# Altium schematic symbol library DemoSchlib.SchLib: 58 symbols
Pins are listed as number, name and electrical type; pins without a type are passive.

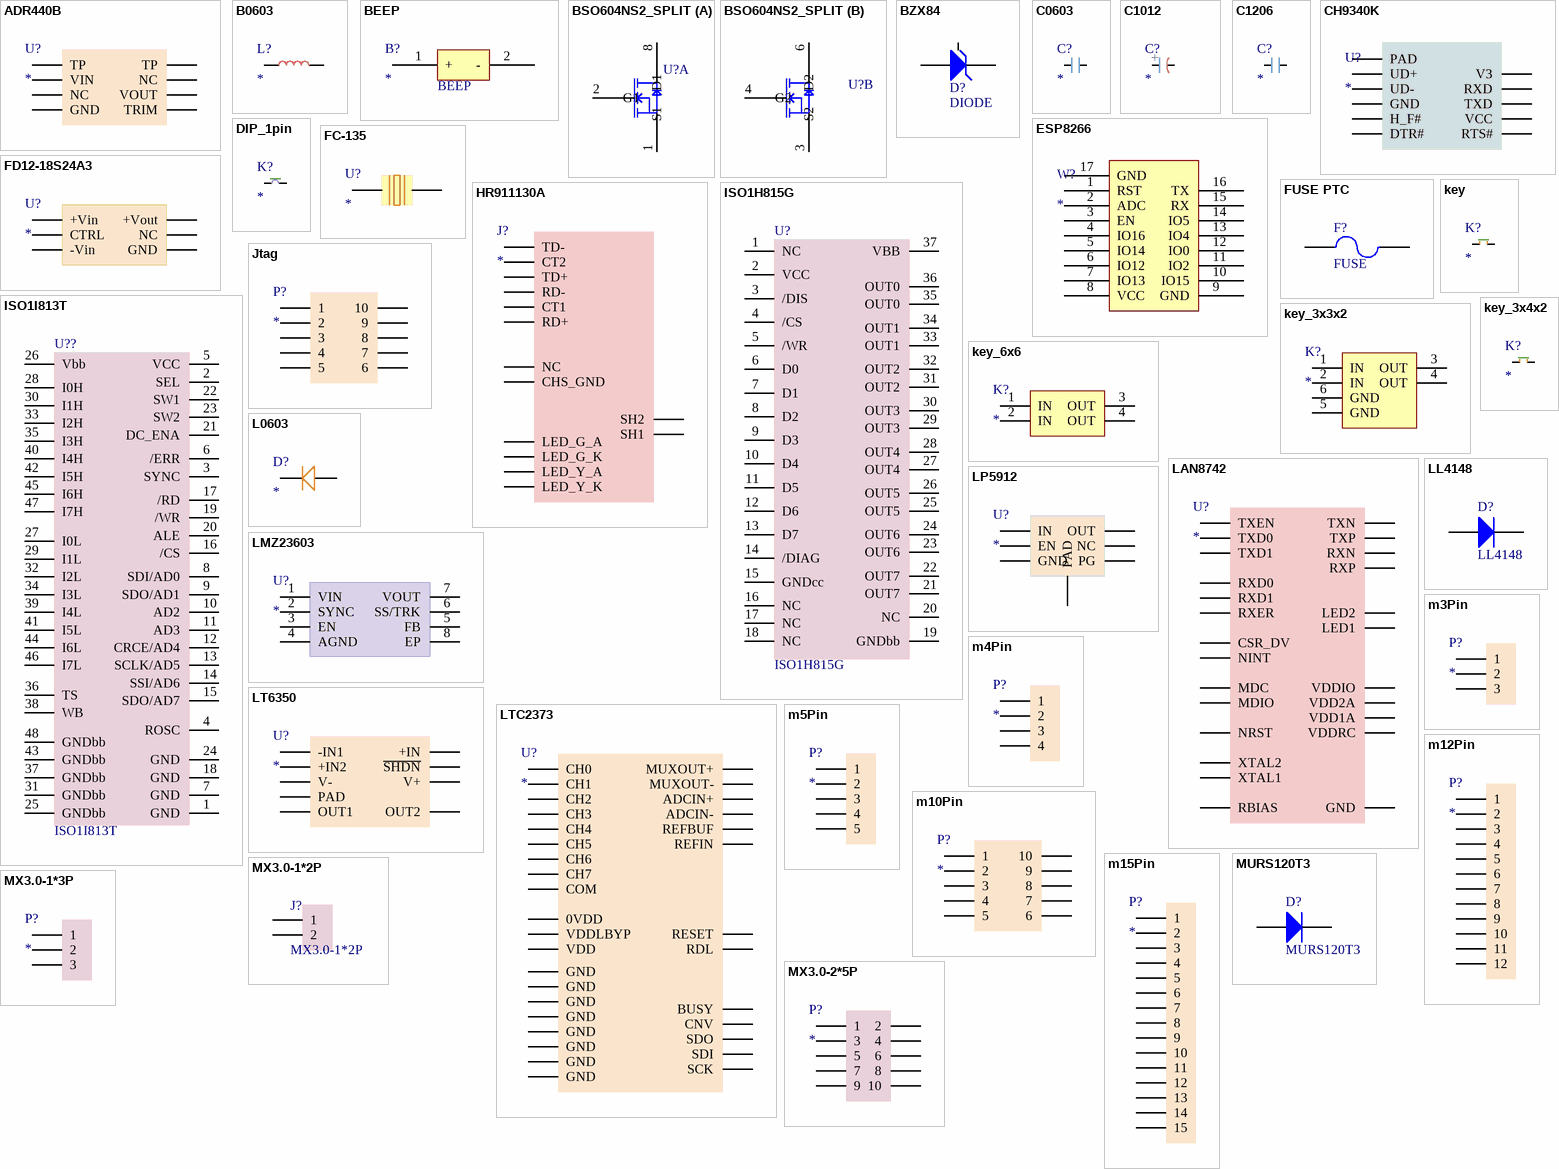
[diagram p0: symbols ADR440B to MX3.0-2*5P]

## ADR440B
designator U?
2.048基准电压
footprint ADR440 MSOP (MSOP, 8-Leads, Body 3.00x3.00mm, Pitch 0.65mm, IPC Medium Density)
pins: 1 TP, 2 VIN, 3 NC, 4 GND, 5 TRIM, 6 VOUT, 7 NC, 8 TP

## B0603
designator L?
磁珠
footprint B0603
pins: 1, 2

## BEEP
designator B?
12*6
footprint BEEP0905
pins: 1 +, 2 -

## BSO604NS2_SPLIT
designator U?  (value not drawn)
Double MOS
footprint BSO604NS2-SOP127P600X175-8N
part A pins: 1 S1, 2 G1, 8 D1
part B pins: 3 S2, 4 G2, 6 D2

## BZX84
designator D?, comment DIODE
infineon BZX84 series
footprint BZX84-SOT95P230X110-3N (SOT23, 3-Leads, Body 2.90x2.30mm, Pitch 0.95mm, IPC Medium Density)
pins: 1 A, 2 nc, 3 K

## C0603
designator C?
陶瓷电容
footprint C0603
pins: 1, 2

## C1012
designator C?
固态电容
footprint C1012
pins: 1, 2
text: +

## C1206
designator C?
陶瓷电容
pins: 1, 2

## CH9340K
designator U?
USB转串口
footprint CH9340
pins: 1 UD+, 2 UD-, 3 GND, 4 H_F#, 5 DTR#, 6 RTS#, 7 VCC, 8 TXD, 9 RXD, 10 V3, 11 PAD

## DIP_1pin
designator K?
拨码开关
footprint HRM-1Pin (贴片拨码开关1pin)
pins: 1, 2

## ESP8266
designator W?
footprint ESP-12S
pins: 1 RST, 2 ADC, 3 EN, 4 IO16, 5 IO14, 6 IO12, 7 IO13, 8 VCC, 9 GND, 10 IO15, 11 IO2, 12 IO0, 13 IO4, 14 IO5, 15 RX, 16 TX, 17 GND

## FC-135
designator U?
32.768K无源晶振
footprint FC-135
pins: 1, 2

## FD12-18S24A3
designator U?
DC DC 隔离电源
footprint FD12-18S24A3 (DC-DC)
pins: 1 -Vin, 2 +Vin, 3 +Vout, 4 NC, 5 GND, 6 CTRL

## FUSE PTC
designator F?, comment FUSE
PTC 1812
footprint 1812 (ptc)
pins: 1, 2

## HR911130A
designator J?
RJ45
footprint RJ45
pins: 1 TD+, 2 TD-, 3 RD+, 4 CT2, 5 CT1, 6 RD-, 7 NC, 8 CHS_GND, 9 LED_G_A, 10 LED_G_K, 11 LED_Y_K, 12 LED_Y_A, 13 SH1, 14 SH2

## ISO1H815G
designator U?
8 ch isolataed high side switch
footprint ISO1H815G (SOP, 36-Leads, Body 15.95x11.00mm, Pitch 0.65mm, Thermal Pad 16.00x5.90mm, IPC Medium Density)
pins: 1 NC, 2 VCC, 3 /DIS, 4 /CS, 5 /WR, 6 D0, 7 D1, 8 D2, 9 D3, 10 D4, 11 D5, 12 D6, 13 D7, 14 /DIAG, 15 GNDcc, 16 NC, 17 NC, 18 NC, 19 GNDbb, 20 NC, 21 OUT7, 22 OUT7, 23 OUT6, 24 OUT6, 25 OUT5, 26 OUT5, 27 OUT4, 28 OUT4, 29 OUT3, 30 OUT3, 31 OUT2, 32 OUT2, 33 OUT1, 34 OUT1, 35 OUT0, 36 OUT0, 37 VBB

## ISO1I813T
designator U??
8 ch digtal input
footprint ISO1I813T (TSSOP, 48-Leads, Body 12.50x6.10mm, Pitch 0.50mm, IPC Medium Density)
pins: 1 GND "8 ch digital input", 2 SEL, 3 SYNC, 4 ROSC, 5 VCC, 6 /ERR, 7 GND, 8 SDI/AD0, 9 SDO/AD1, 10 AD2, 11 AD3, 12 CRCE/AD4, 13 SCLK/AD5, 14 SSI/AD6, 15 SDO/AD7, 16 /CS, 17 /RD, 18 GND, 19 /WR, 20 ALE, 21 DC_ENA, 22 SW1, 23 SW2, 24 GND, 25 GNDbb, 26 Vbb, 27 I0L, 28 I0H, 29 I1L, 30 I1H, 31 GNDbb, 32 I2L, 33 I2H, 34 I3L, 35 I3H, 36 TS, 37 GNDbb, 38 WB, 39 I4L, 40 I4H, 41 I5L, 42 I5H, 43 GNDbb, 44 I6L, 45 I6H, 46 I7L, 47 I7H, 48 GNDbb

## Jtag
designator P?
5x2排针1.27mm
footprint 5x2 Jtag
pins: 1, 2, 3, 4, 5, 6, 7, 8, 9, 10

## key
designator K?
贴片按键
footprint Key (轻触开关)
pins: 1, 2

## key_3x3x2
designator K?
贴片按键
footprint Key 3x3x2
pins: 1 IN, 2 IN, 3 OUT, 4 OUT, 5 GND, 6 GND

## key_3x4x2
designator K?
贴片按键
footprint Key 3x4x2
pins: 1, 2

## key_6x6
designator K?
贴片按键
footprint Key 6x6
pins: 1 IN, 2 IN, 3 OUT, 4 OUT

## L0603
designator D?
LED
footprint led0603
pins: 1, 2

## LAN8742
designator U?
eth
footprint LAN8742
pins: 1 VDD2A, 2 LED2, 3 LED1, 4 XTAL2, 5 XTAL1, 6 VDDRC, 7 RXD0, 8 RXD1, 9 VDDIO, 10 RXER, 11 CSR_DV, 12 MDIO, 13 MDC, 14 NINT, 15 NRST, 16 TXEN, 17 TXD0, 18 TXD1, 19 VDD1A, 20 TXN, 21 TXP, 22 RXN, 23 RXP, 24 RBIAS, 25 GND

## LL4148
designator D?
footprint LL41(D0-213AB)
pins: 1 A, 2 K

## LMZ23603
designator U?
DC-DC OUT:6v 3A
footprint LMZ23603
pins: 1 VIN, 2 SYNC, 3 EN, 4 AGND, 5 FB, 6 SS/TRK, 7 VOUT, 8 EP

## LP5912
designator U?
LDO
footprint LP5912 (SON, 6-Leads, Body 2.00x2.00mm, Pitch 0.65mm, Thermal Pad 1.60x0.89mm, IPC Medium Density)
pins: 1 OUT, 2 NC, 3 PG, 4 EN, 5 GND, 6 IN, 7 PAD

## LT6350
designator U?
单端信号至差分信号
footprint LT6350 (DFN8Pin)
pins: 1 -IN1, 2 +IN2, 3 V+, 4 OUT1, 5 OUT2, 6 V-, 7 ~{SHDN}, 8 +IN, 9 PAD

## LTC2373
designator U?
16位ADC
footprint LTC2373 (PQFN, 32-Leads, Body 5.00x5.00mm, Pitch 0.50mm, Thermal Pad 3.45x3.45mm, IPC Medium Density)
pins: 1 CH2, 2 CH3, 3 MUXOUT+, 4 ADCIN+, 5 ADCIN-, 6 MUXOUT-, 7 CH4, 8 CH5, 9 CH6, 10 CH7, 11 GND, 12 REFBUF, 13 REFIN, 14 GND, 15 GND, 16 CNV, 17 GND, 18 RDL, 19 BUSY, 20 SDI, 21 SCK, 22 SDO, 23 GND, 24 RESET, 25 0VDD, 26 GND, 27 GND, 28 VDDLBYP, 29 VDD, 30 COM, 31 CH0, 32 CH1, 33 GND

## m3Pin
designator P?
3x1pin连接器
footprint 3x1 header
pins: 1, 2, 3

## m4Pin
designator P?
1x4pin 1.27mm
footprint 4x1 header
pins: 1, 2, 3, 4

## m5Pin
designator P?
1x4pin 1.27mm
footprint 5x1 header
pins: 1, 2, 3, 4, 5

## m10Pin
designator P?
5x2排针1.27mm
footprint 5x2 header
footprint 5x2 header
pins: 1, 2, 3, 4, 5, 6, 7, 8, 9, 10

## m12Pin
designator P?
1x4pin 1.27mm
footprint 12x1 header
pins: 1, 2, 3, 4, 5, 6, 7, 8, 9, 10, 11, 12

## m15Pin
designator P?
1x4pin 1.27mm
footprint 15x1 header
pins: 1, 2, 3, 4, 5, 6, 7, 8, 9, 10, 11, 12, 13, 14, 15

## MURS120T3
designator D?
footprint SMB(DO-214AA)
pins: 1 A, 2 K

## MX3.0-1*2P
designator J?
2Pin 插件
footprint MX3.0-1*2P
pins: 1, 2

## MX3.0-1*3P
designator P?
3x1pin连接器
footprint MX3.0-1*3P
pins: 1, 2, 3

## MX3.0-2*5P
designator P?
2x5pin连接器
footprint MX3.0-2*5P
pins: 1, 2, 3, 4, 5, 6, 7, 8, 9, 10

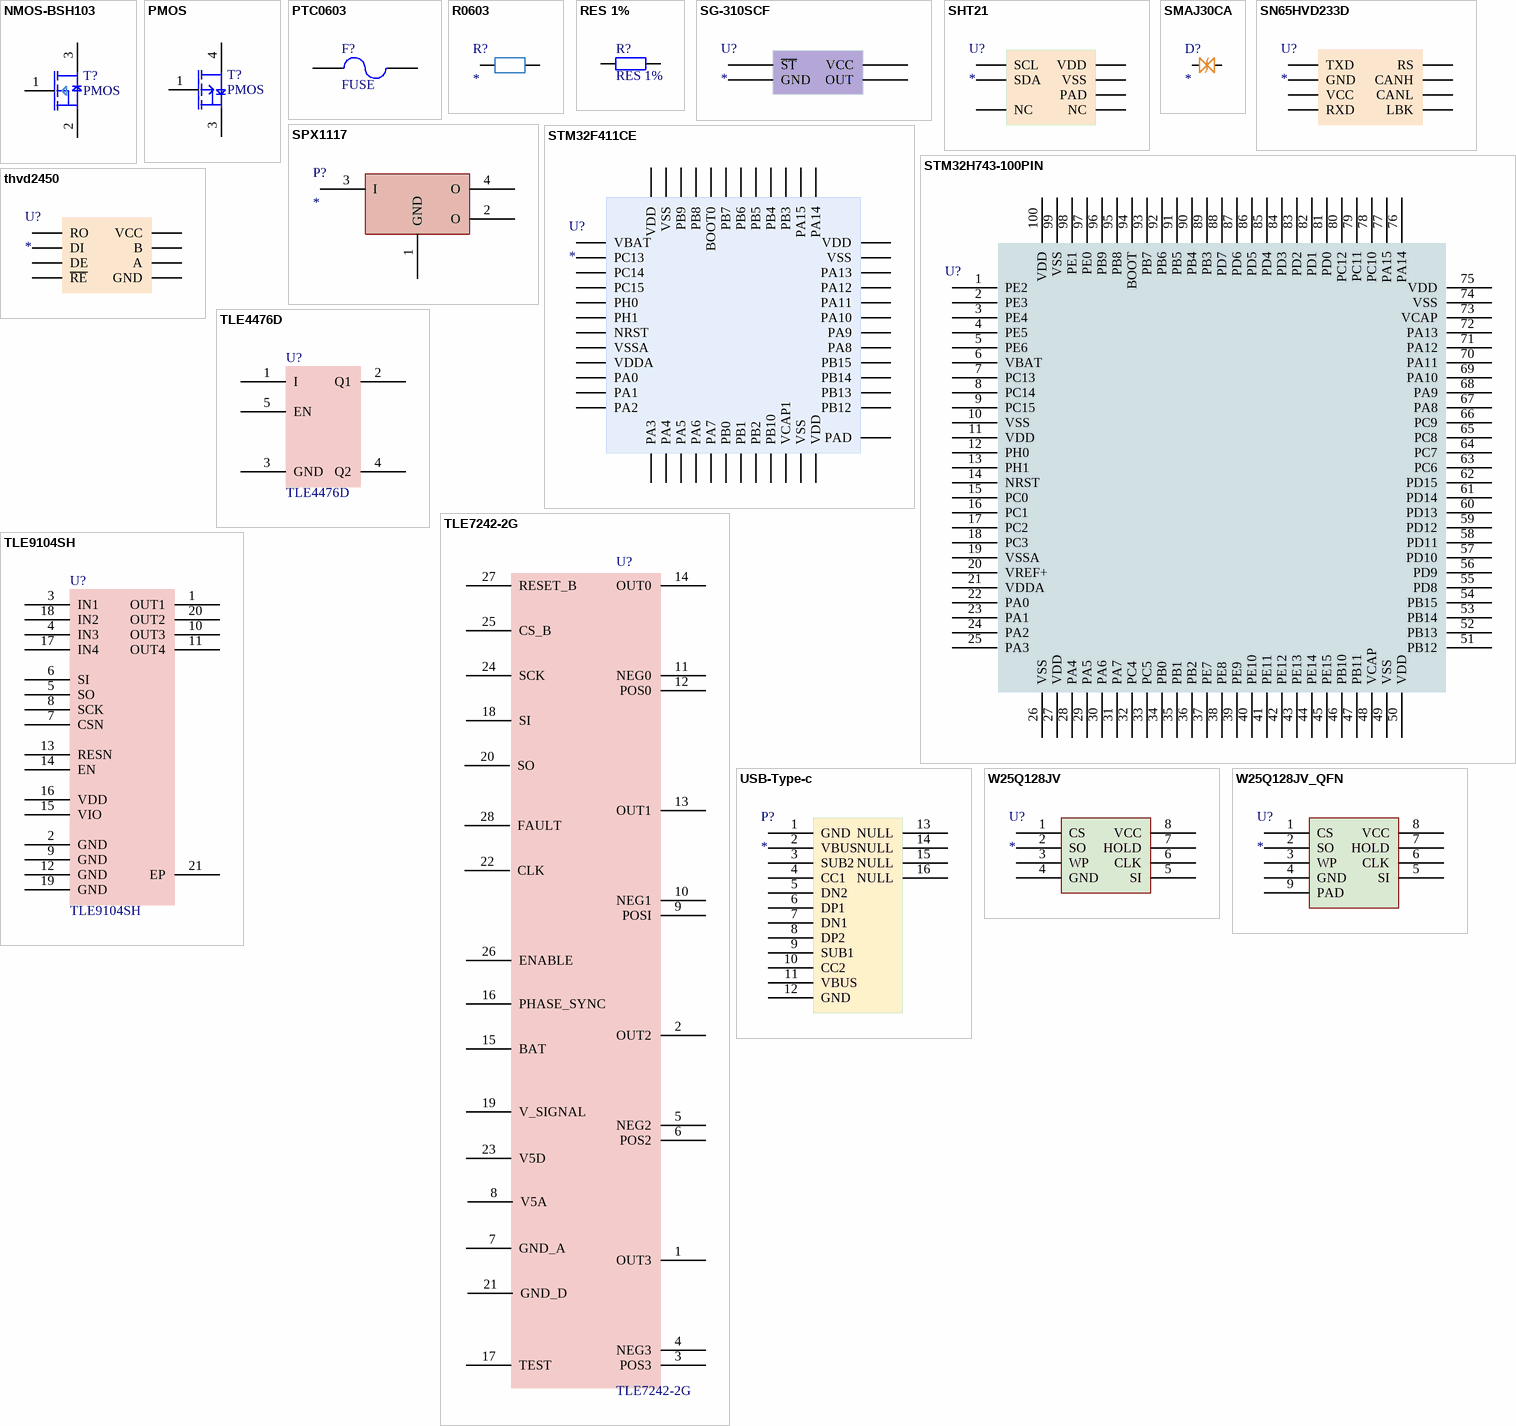
[diagram p1: symbols NMOS-BSH103 to W25Q128JV_QFN]

## NMOS-BSH103
designator T?, comment PMOS
infineon P-Chanel
footprint NMOS-BSH103 (SOT23, 3-Leads, Body 2.90x2.30mm, Pitch 0.95mm, IPC Medium Density)
pins: 1 G, 2 S, 3 D

## PMOS
designator T?
infineon P-Chanel
footprint PG-TO263-3-DPAK254P1524X457-3N (D2-PAK, 3-Pads, Body 7.82x8.52mm (max), IPC Medium Density)
pins: 1 G, 3 S, 4 D

## PTC0603
designator F?, comment FUSE
PTC 1812
footprint R0603
pins: 1, 2

## R0603
designator R?
电阻
footprint R0603
pins: 1, 2

## RES 1%
designator R?
footprint res2516-RESC6432X06N (Chip Resistor, 2-Leads, Body 6.35x3.20mm, IPC Medium Density)
pins: 1, 2

## SG-310SCF
designator U?
有源晶振3225
footprint SG-310SCF (3225)
pins: 1 ~{ST}, 2 GND, 3 OUT, 4 VCC

## SHT21
designator U?
温湿度传感器
footprint SHT21 (SON, 6-Leads, Body 3.00x3.00mm, Pitch 1.00mm, Thermal Pad 2.40x1.50mm, IPC Medium Density)
pins: 1 SDA, 2 VSS, 3 NC, 4 NC, 5 VDD, 6 SCL, 7 PAD

## SMAJ30CA
designator D?
TVS 双向二极管
footprint SMAJ30CA
pins: 1, 2

## SN65HVD233D
designator U?
can
footprint SN65HVD233D (SOIC, 8-Leads, Body 4.91x3.90mm, Pitch 1.27mm, IPC Medium Density)
pins: 1 TXD, 2 GND, 3 VCC, 4 RXD, 5 LBK, 6 CANL, 7 CANH, 8 RS

## SPX1117
designator P?
LDO --> 3.3
footprint SPX1117
pins: 1 GND, 2 O, 3 I, 4 O

## STM32F411CE
designator U?
STM32F411 QFN48PIN
footprint STM32F411CE QFN (QFN, 48-Leads, Body 7.00x7.00mm, Pitch 0.50mm, Thermal Pad 5.60x5.60mm, IPC Medium Density)
pins: 1 VBAT, 2 PC13, 3 PC14, 4 PC15, 5 PH0, 6 PH1, 7 NRST, 8 VSSA, 9 VDDA, 10 PA0, 11 PA1, 12 PA2, 13 PA3, 14 PA4, 15 PA5, 16 PA6, 17 PA7, 18 PB0, 19 PB1, 20 PB2, 21 PB10, 22 VCAP1, 23 VSS, 24 VDD, 25 PB12, 26 PB13, 27 PB14, 28 PB15, 29 PA8, 30 PA9, 31 PA10, 32 PA11, 33 PA12, 34 PA13, 35 VSS, 36 VDD, 37 PA14, 38 PA15, 39 PB3, 40 PB4, 41 PB5, 42 PB6, 43 PB7, 44 BOOT0, 45 PB8, 46 PB9, 47 VSS, 48 VDD, 49 PAD

## STM32H743-100PIN
designator U?  (value not drawn)
STM32H743
footprint STM32H743Vi (QFP127P600-8N)
pins: 1 PE2, 2 PE3, 3 PE4, 4 PE5, 5 PE6, 6 VBAT, 7 PC13, 8 PC14, 9 PC15, 10 VSS, 11 VDD, 12 PH0, 13 PH1, 14 NRST, 15 PC0, 16 PC1, 17 PC2, 18 PC3, 19 VSSA, 20 VREF+, 21 VDDA, 22 PA0, 23 PA1, 24 PA2, 25 PA3, 26 VSS, 27 VDD, 28 PA4, 29 PA5, 30 PA6, 31 PA7, 32 PC4, 33 PC5, 34 PB0, 35 PB1, 36 PB2, 37 PE7, 38 PE8, 39 PE9, 40 PE10, 41 PE11, 42 PE12, 43 PE13, 44 PE14, 45 PE15, 46 PB10, 47 PB11, 48 VCAP, 49 VSS, 50 VDD, 51 PB12, 52 PB13, 53 PB14, 54 PB15, 55 PD8, 56 PD9, 57 PD10, 58 PD11, 59 PD12, 60 PD13, 61 PD14, 62 PD15, 63 PC6, 64 PC7, 65 PC8, 66 PC9, 67 PA8, 68 PA9, 69 PA10, 70 PA11, 71 PA12, 72 PA13, 73 VCAP, 74 VSS, 75 VDD, 76 PA14, 77 PA15, 78 PC10, 79 PC11, 80 PC12, 81 PD0, 82 PD1, 83 PD2, 84 PD3, 85 PD4, 86 PD5, 87 PD6, 88 PD7, 89 PB3, 90 PB4, 91 PB5, 92 PB6, 93 PB7, 94 BOOT, 95 PB8, 96 PB9, 97 PE0, 98 PE1, 99 VSS, 100 VDD

## thvd2450
designator U?
485通信
footprint THVD2450 (SOIC, 8-Leads, Body 4.91x3.90mm, Pitch 1.27mm, IPC Medium Density)
pins: 1 RO, 2 ~{RE}, 3 DE, 4 DI, 5 GND, 6 A, 7 B, 8 VCC

## TLE4476D
designator U?
两路 LDO 3.3v 5v
footprint TLE4476D-DPAK114P998X230-5N (D-PAK, 5-Pads, Body 6.21x6.61mm (max), IPC Medium Density)
pins: 1 I, 2 Q1, 3 GND, 4 Q2, 5 EN

## TLE7242-2G
designator U?
恒流驱动
footprint TLE7242-SOP127P1030X265-28N (SOP, 28-Leads, Body 18.05x7.50mm, Pitch 1.27mm, IPC Medium Density)
pins: 1 OUT3, 2 OUT2, 3 POS3, 4 NEG3, 5 NEG2, 6 POS2, 7 GND_A, 8 V5A, 9 POSI, 10 NEG1, 11 NEG0, 12 POS0, 13 OUT1, 14 OUT0, 15 BAT, 16 PHASE_SYNC, 17 TEST, 18 SI, 19 V_SIGNAL, 20 SO, 21 GND_D, 22 CLK, 23 V5D, 24 SCK, 25 CS_B, 26 ENABLE, 27 RESET_B, 28 FAULT

## TLE9104SH
designator U?
4channel low side switch
footprint TLE9104SH (LOW SIDE SWITCH)
pins: 1 OUT1, 2 GND, 3 IN1, 4 IN3, 5 SO, 6 SI, 7 CSN, 8 SCK, 9 GND, 10 OUT3, 11 OUT4, 12 GND, 13 RESN, 14 EN, 15 VIO, 16 VDD, 17 IN4, 18 IN2, 19 GND, 20 OUT2, 21 EP

## USB-Type-c
designator P?
use typec 16p
footprint USB-TYPE-C
pins: 1 GND, 2 VBUS, 3 SUB2, 4 CC1, 5 DN2, 6 DP1, 7 DN1, 8 DP2, 9 SUB1, 10 CC2, 11 VBUS, 12 GND, 13 NULL, 14 NULL, 15 NULL, 16 NULL

## W25Q128JV
designator U?
flash
footprint W25Q128 (SOIC, 8-Leads, Body 5.23x5.23mm, Pitch 1.27mm, IPC Medium Density)
pins: 1 CS, 2 SO, 3 WP, 4 GND, 5 SI, 6 CLK, 7 HOLD, 8 VCC

## W25Q128JV_QFN
designator U?
flash
footprint W25Q64 QFN
pins: 1 CS, 2 SO, 3 WP, 4 GND, 5 SI, 6 CLK, 7 HOLD, 8 VCC, 9 PAD